# Altium footprint library H14.42-1B.PcbLib: 1 footprints
Each footprint in its own frame and in the unit in brackets; x right, y up, seen from the top. Pads: shape width x height; smd on the part's side, far side on the other; paste and mask are expansions set on the pad; w line width, h text height; cw(c..) or ccw(c..) is an arc to the next point about the centre after c.
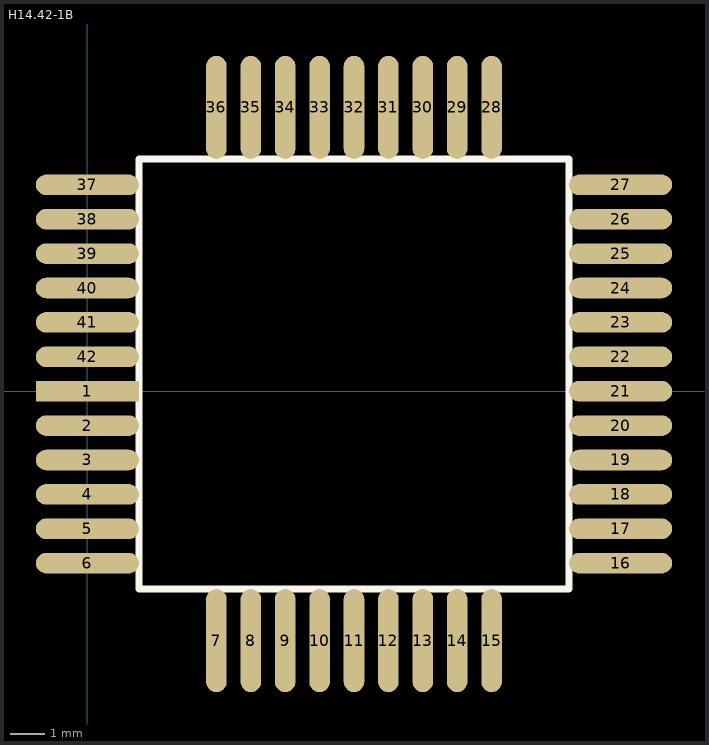
[diagram p0: the footprint, top view; thin cyan lines are the x and y axes]

## H14.42-1B [mm]
pads (42):
  rect 3x0.6 smd: 1(0,0)
  oval 3x0.6 smd: 2(0,-1) 3(0,-2) 4(0,-3) 5(0,-4) 6(0,-5) 16(15.5,-5) 17(15.5,-4) 18(15.5,-3) 19(15.5,-2) 20(15.5,-1) 21(15.5,0) 22(15.5,1) 23(15.5,2) 24(15.5,3) 25(15.5,4) 26(15.5,5) 27(15.5,6) 37(0,6) 38(0,5) 39(0,4) 40(0,3) 41(0,2) 42(0,1)
  oval 0.6x3 smd: 7(3.75,-7.25) 8(4.75,-7.25) 9(5.75,-7.25) 10(6.75,-7.25) 11(7.75,-7.25) 12(8.75,-7.25) 13(9.75,-7.25) 14(10.75,-7.25) 15(11.75,-7.25) 28(11.75,8.25) 29(10.75,8.25) 30(9.75,8.25) 31(8.75,8.25) 32(7.75,8.25) 33(6.75,8.25) 34(5.75,8.25) 35(4.75,8.25) 36(3.75,8.25)
Top Overlay:
  lines w0.2: 1.5,-5.75 14,-5.75 14,6.75 1.5,6.75 1.5,-5.75